# EAGLE library part ESP03 (library ESP8266Modules)
ESP8266 Wifi module 03
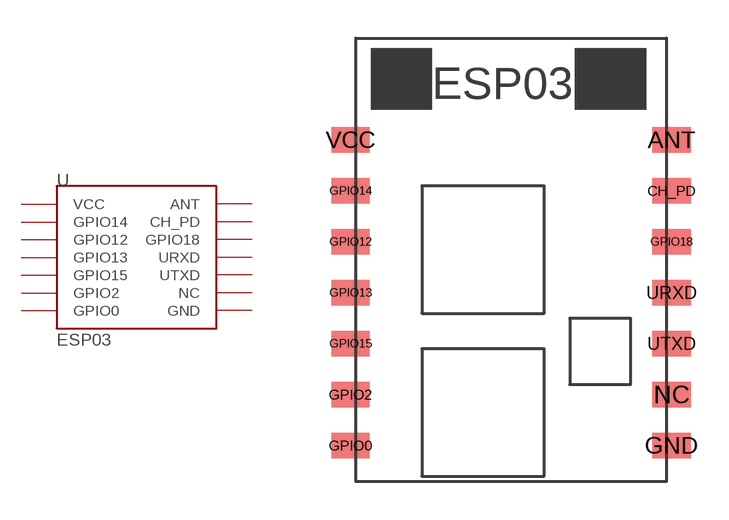
[diagram p12: symbol with the pads of ESP03; footprint ESP03]

Designator prefix -

## ESP03 (DIMENSIONS: 17.3 x 12.1 mm; PINS: 14; PITCH: 0.078" / 2 mm)  [ESP03]
ANT  ANT
CH_PD  CH_PD
GND  GND
GPIO0  GPIO0
GPIO2  GPIO2
GPIO12  GPIO12
GPIO13  GPIO13
GPIO14  GPIO14
GPIO15  GPIO15
GPIO18  GPIO18
NC  NC
URXD  URXD
UTXD  UTXD
VCC  VCC

## Footprint ESP03 (pad centres in mm)
ESP8266 Modules ESP-03
smd 1.5 x 1: ANT 7.4,4.8; CH_PD 7.4,2.8; GND 7.4,-7.2; GPIO0 -5.2,-7.2; GPIO2 -5.2,-5.2; GPIO12 -5.2,0.8; GPIO13 -5.2,-1.2; GPIO14 -5.2,2.8; GPIO15 -5.2,-3.2; GPIO18 7.4,0.8; NC 7.4,-5.2; URXD 7.4,-1.2; UTXD 7.4,-3.2; VCC -5.2,4.8